# Altium schematic symbol library RP2040_WEDS.SchLib: 23 symbols
Pins are listed as number, name and electrical type; pins without a type are passive.

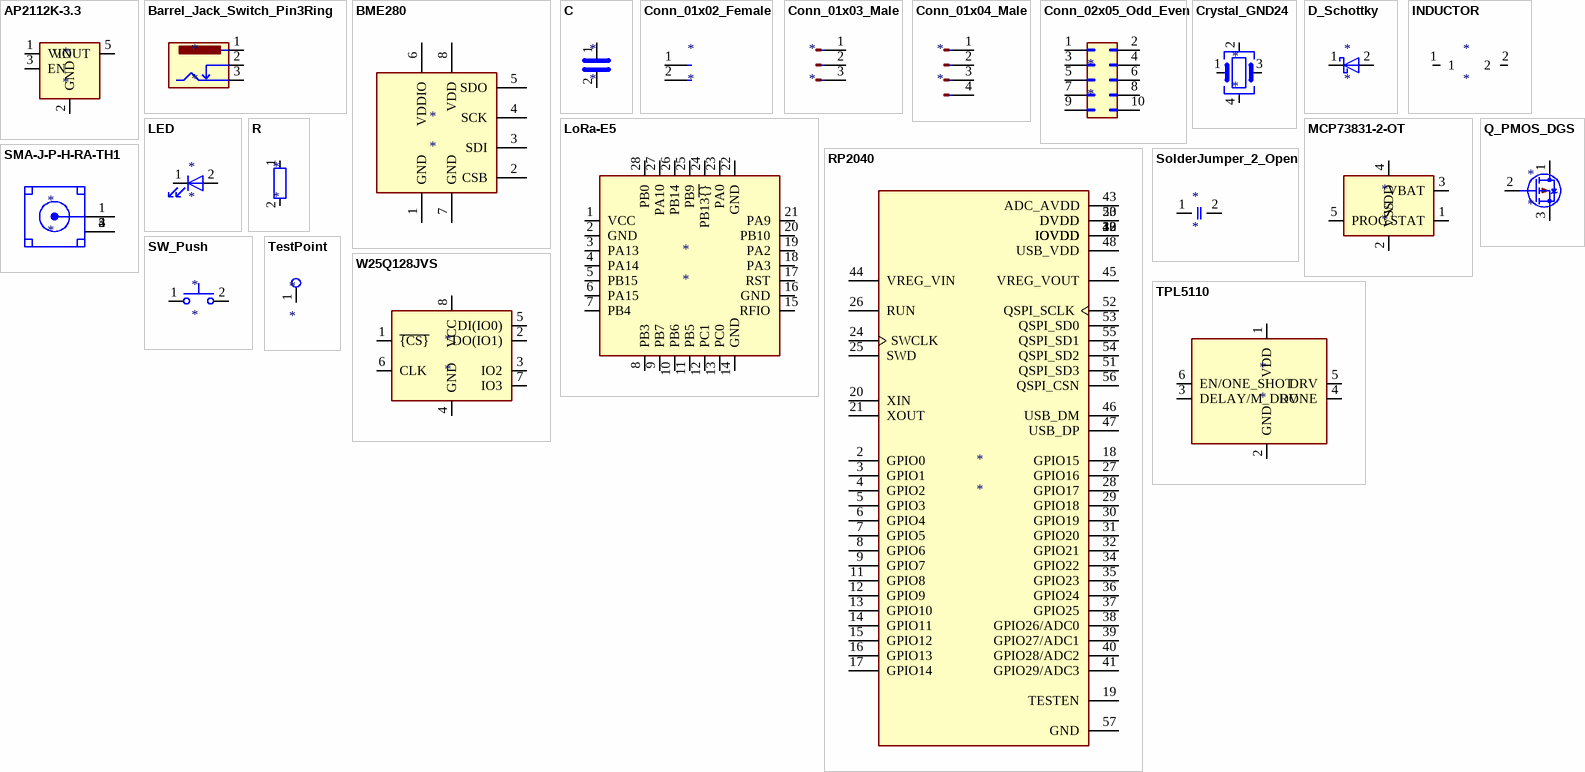
[diagram p0: symbols AP2112K-3.3 to W25Q128JVS]

## AP2112K-3.3
designator *
pins: 1 VIN, 2 GND, 3 EN, 4 NC hidden, 5 VOUT

## Barrel_Jack_Switch_Pin3Ring
designator *
pins: 1, 2, 3

## BME280
designator *
pins: 1 GND, 2 CSB, 3 SDI, 4 SCK, 5 SDO, 6 VDDIO, 7 GND, 8 VDD

## C
designator *
pins: 1, 2

## Conn_01x02_Female
designator *
pins: 1 Pin_1, 2 Pin_2

## Conn_01x03_Male
designator *
pins: 1 Pin_1, 2 Pin_2, 3 Pin_3

## Conn_01x04_Male
designator *
pins: 1 Pin_1, 2 Pin_2, 3 Pin_3, 4 Pin_4

## Conn_02x05_Odd_Even
designator *
pins: 1 Pin_1, 2 Pin_2, 3 Pin_3, 4 Pin_4, 5 Pin_5, 6 Pin_6, 7 Pin_7, 8 Pin_8, 9 Pin_9, 10 Pin_10

## Crystal_GND24
designator *
pins: 1, 2, 3, 4

## D_Schottky
designator *
pins: 1 K, 2 A

## INDUCTOR
designator *
pins: 1, 2

## LED
designator *
pins: 1 K, 2 A

## LoRa-E5
designator *
pins: 1 VCC, 2 GND, 3 PA13, 4 PA14, 5 PB15, 6 PA15, 7 PB4, 8 PB3, 9 PB7, 10 PB6, 11 PB5, 12 PC1, 13 PC0, 14 GND, 15 RFIO, 16 GND, 17 RST, 18 PA3, 19 PA2, 20 PB10, 21 PA9, 22 GND, 23 PA0, 24 PB13~{{}}, 25 PB9, 26 PB14, 27 PA10, 28 PB0

## MCP73831-2-OT
designator *
pins: 1 STAT, 2 VSS, 3 VBAT, 4 VDD, 5 PROG

## Q_PMOS_DGS
designator *
pins: 1 D, 2 G, 3 S

## R
designator *
pins: 1, 2

## RP2040
designator *
pins: 1 IOVDD, 2 GPIO0, 3 GPIO1, 4 GPIO2, 5 GPIO3, 6 GPIO4, 7 GPIO5, 8 GPIO6, 9 GPIO7, 10 IOVDD, 11 GPIO8, 12 GPIO9, 13 GPIO10, 14 GPIO11, 15 GPIO12, 16 GPIO13, 17 GPIO14, 18 GPIO15, 19 TESTEN, 20 XIN, 21 XOUT, 22 IOVDD, 23 DVDD, 24 SWCLK, 25 SWD, 26 RUN, 27 GPIO16, 28 GPIO17, 29 GPIO18, 30 GPIO19, 31 GPIO20, 32 GPIO21, 33 IOVDD, 34 GPIO22, 35 GPIO23, 36 GPIO24, 37 GPIO25, 38 GPIO26/ADC0, 39 GPIO27/ADC1, 40 GPIO28/ADC2, 41 GPIO29/ADC3, 42 IOVDD, 43 ADC_AVDD, 44 VREG_VIN, 45 VREG_VOUT, 46 USB_DM, 47 USB_DP, 48 USB_VDD, 49 IOVDD, 50 DVDD, 51 QSPI_SD3, 52 QSPI_SCLK, 53 QSPI_SD0, 54 QSPI_SD2, 55 QSPI_SD1, 56 QSPI_CSN, 57 GND

## SMA-J-P-H-RA-TH1
designator *
pins: 1, 2, 3, 4, 5

## SolderJumper_2_Open
designator *
pins: 1 A, 2 B

## SW_Push
designator *
pins: 1, 2

## TestPoint
designator *
pins: 1

## TPL5110
designator *
pins: 1 VDD, 2 GND, 3 DELAY/M_DRV, 4 DONE, 5 DRV, 6 EN/ONE_SHOT

## W25Q128JVS
designator *
pins: 1 ~{{CS}}, 2 DO(IO1), 3 IO2, 4 GND, 5 DI(IO0), 6 CLK, 7 IO3, 8 VCC